# EAGLE library part LP2951 (library SaintGimp)
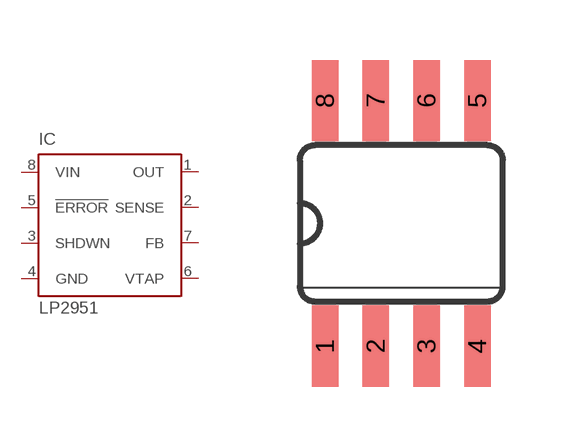
[diagram p19: symbol with the pads of SOIC-08; footprint SOIC-08]

Designator prefix IC

## LP2951  [SOIC-08]
1  OUT  sup
2  SENSE  pas
3  SHDWN  in
4  GND  pwr
5  !ERROR  out
6  VTAP  out
7  FB  in
8  VIN  in

## Footprint SOIC-08 (pad centres in mm)
8-pin SOIC 150 mil
smd 0.66 x 2.032: 1 -1.905,-3.073; 2 -0.635,-3.073; 3 0.635,-3.073; 4 1.905,-3.073; 5 1.905,3.073; 6 0.635,3.073; 7 -0.635,3.073; 8 -1.905,3.073